# Altium footprint library SparkFun-DiscreteSemi.PCBLIB: 24 footprints (part 2 of 2)
Each footprint in its own frame and in the unit in brackets; x right, y up, seen from the top. Pads: shape width x height; smd on the part's side, far side on the other; paste and mask are expansions set on the pad; w line width, h text height; cw(c..) or ccw(c..) is an arc to the next point about the centre after c.
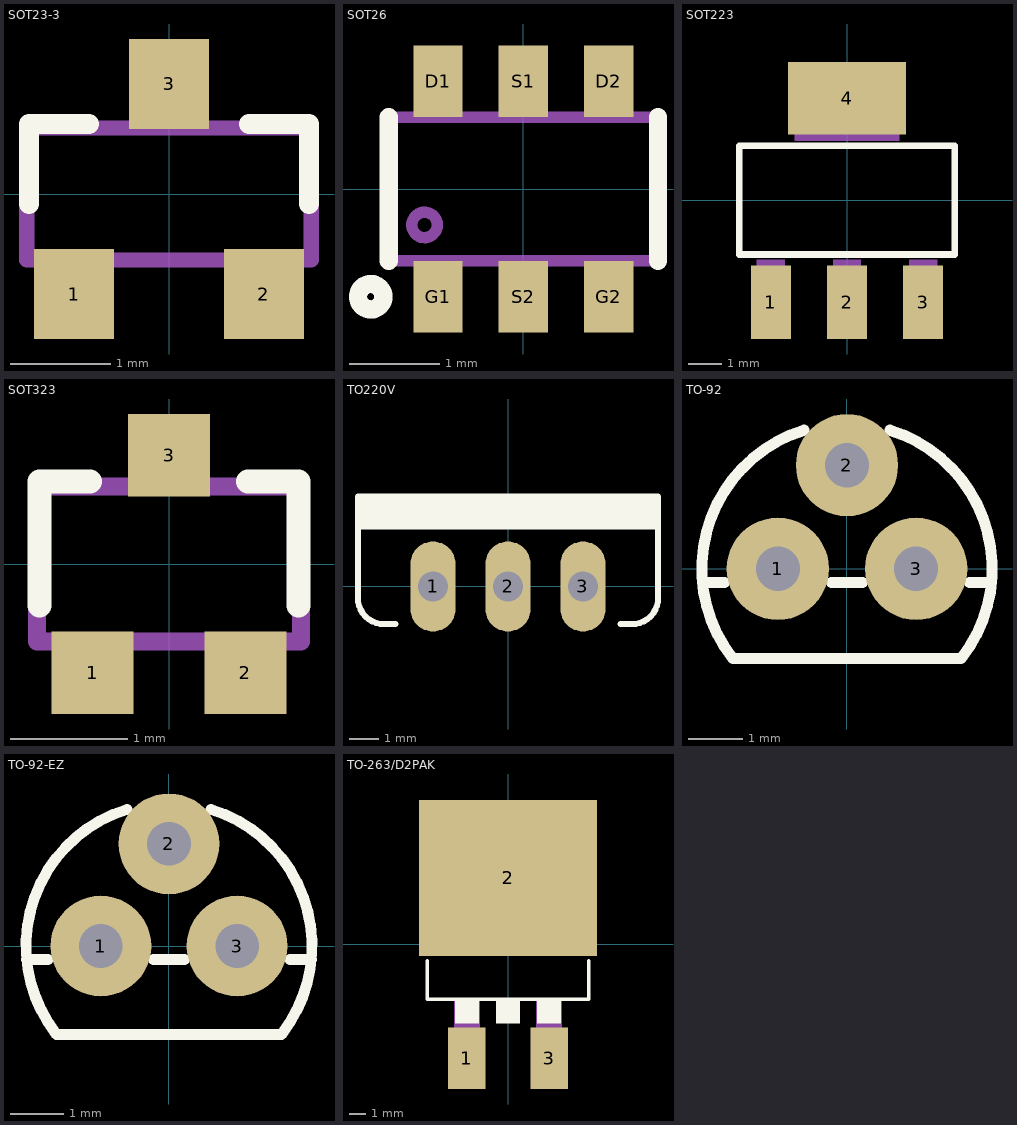
[diagram p1: the footprints below, top view; thin cyan lines are the x and y axes]

## SOT23-3 [mil]
pads (3):
  rect 31.5x35.43 smd: 1(-37.4,-39.37) 2(37.4,-39.37) 3(0,43.31)
Top Overlay:
  lines w8: -55.12,-3.94 -55.12,27.56 -31.5,27.56 ; 31.5,27.56 55.12,27.56 55.12,-3.94
Mechanical 16:
  lines w6: -56,-26 56,-26 56,26 -56,26 -56,-26

## SOT26 [mil]
pads (6):
  rect 21.65x31.5 smd: D1(-37.4,47.24) D2(37.4,47.24) G1(-37.4,-47.24) G2(37.4,-47.24) S1(0,47.24) S2(0,-47.24)
Top Overlay:
  circle w8: c-66.93,-47.24 r5.57
  lines w8: -59.06,-31.5 -59.06,31.5 ; 59.06,-31.5 59.06,31.5
Mechanical 16:
  circle w5: c-43.31,-15.75 r5.57
  lines w5: -59.06,-31.5 -59.06,31.5 59.06,31.5 59.06,-31.5 -59.06,-31.5

## SOT223 [mil]
pads (4):
  rect 48x88 smd: 1(-91,-122) 2(0,-122) 3(91,-122)
  rect 141.73x86.61 smd: 4(0,122.01)
Top Overlay:
  lines w8: -129,-65 129,-65 129,65 -129,65 -129,-65
Mechanical 16:
  rectangle: -63,71 63,144
  rectangle: -17,-144 17,-71
  rectangle: -108,-144 -74,-71
  rectangle: 74,-144 108,-71
  rectangle: -63,71 63,144
  rectangle: -17,-144 17,-71
  rectangle: -108,-144 -74,-71
  rectangle: 74,-144 108,-71

## SOT323 [mm]
pads (3):
  rect 0.7x0.7 smd: 1(-0.65,-0.925) 2(0.65,-0.925) 3(0,0.925)
Top Overlay:
  lines w0.203: -1.1,-0.354 -1.1,0.7 -0.673,0.7 ; 0.673,0.7 1.1,0.7 1.1,-0.354
Mechanical 16:
  lines w0.152: -1.122,-0.66 1.122,-0.66 1.122,0.66 -1.122,0.66 -1.122,-0.66

## TO220V [mil]
pads (3):
  oval 60x120 hole 40: 1(-100,0) 2(0,0) 3(100,0)
Top Overlay:
  rectangle: -200,80 200,120
  lines w8: -150,-50 -165,-50 cw(c-165.83,-15.83) -200,-15 -200,80 ; 150,-50 165,-50 ccw(c165.83,-15.83) 200,-15 200,80 ; -200,80 200,80 ; -200,80 -200,120 200,120 200,80

## TO-92 [mil]
pads (3):
  round 74 hole 32: 1(-50,0) 2(0,75) 3(50,0)
Top Overlay:
  lines w8: -104.52,-10 -88.73,-10 ; -30.96,100.33 ccw(c0,0) -82.46,-65 82.46,-65 ccw(c0,0) 30.96,100.33 ; -11.27,-10 11.27,-10 ; 88.73,-10 104.52,-10

## TO-92-EZ [mil]
pads (3):
  round 74 hole 32: 1(-50,0) 2(0,75) 3(50,0)
Top Overlay:
  lines w8: -104.52,-10 -88.73,-10 ; -30.96,100.33 ccw(c0,0) -82.46,-65 82.46,-65 ccw(c0,0) 30.96,100.33 ; -11.27,-10 11.27,-10 ; 88.73,-10 104.52,-10
Top Solder:
  circle w0: c0,75 r20
  circle w0: c-50,0 r20
  circle w0: c50,0 r20
Bottom Solder:
  circle w0: c0,75 r40.31
  circle w0: c50,0 r40.31
  circle w0: c-50,0 r40.31

## TO-263/D2PAK [mil]
pads (3):
  rect 91.34x150 smd: 1(-100,-277.36) 3(100,-277.36)
  rect 433.07x379.92 smd: 2(0,162.4)
Top Overlay:
  rectangle: -28.74,-192.91 28.74,-133.86
  rectangle: -128.74,-192.91 -71.26,-133.86
  rectangle: 71.26,-192.91 128.74,-133.86
  lines w8: -196.85,-39.37 -196.85,-133.86 196.85,-133.86 196.85,-39.37
Mechanical 16:
  rectangle: -128.74,-299.21 -71.26,-133.86
  rectangle: 71.26,-299.21 128.74,-133.86
  region: 0,0 10,0 10,10 0,10
  lines w5: -196.85,-25.59 -196.85,246.06 ; 196.85,-25.59 196.85,246.06 ; -128.74,-299.21 -71.26,-299.21 -71.26,-133.86 -128.74,-133.86 -128.74,-299.21 ; 71.26,-299.21 71.26,-133.86 128.74,-133.86 128.74,-299.21 71.26,-299.21